# EAGLE library part CCS811 (library CCS811)
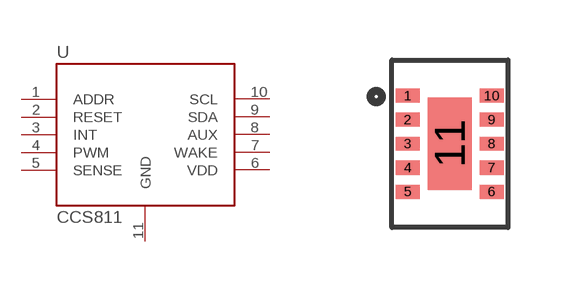
[diagram p0: symbol with the pads of LGA; footprint LGA]

Designator prefix -

## CCS811-I2C  [LGA]
1  ADDR
2  RESET
3  INT
4  PWM
5  SENSE
6  VDD
7  WAKE
8  AUX
9  SDA
10  SCL
11  GND

## Footprint LGA (pad centres in mm)
CCS811 is available in a lead 2.7 x 4.0mm, 0.6mm pitch LGA package. Designed by Akram Ali September 2016
smd 0.6 x 0.35: 1 0.3,3.2; 2 0.3,2.6; 3 0.3,2; 4 0.3,1.4; 5 0.3,0.8; 6 2.4,0.8; 7 2.4,1.4; 8 2.4,2; 9 2.4,2.6; 10 2.4,3.2
smd 1.1 x 2.3: 11 1.35,2